# Altium footprint library DTM.PcbLib: 2 footprints
Each footprint in its own frame and in the unit in brackets; x right, y up, seen from the top. Pads: shape width x height; smd on the part's side, far side on the other; paste and mask are expansions set on the pad; w line width, h text height; cw(c..) or ccw(c..) is an arc to the next point about the centre after c.
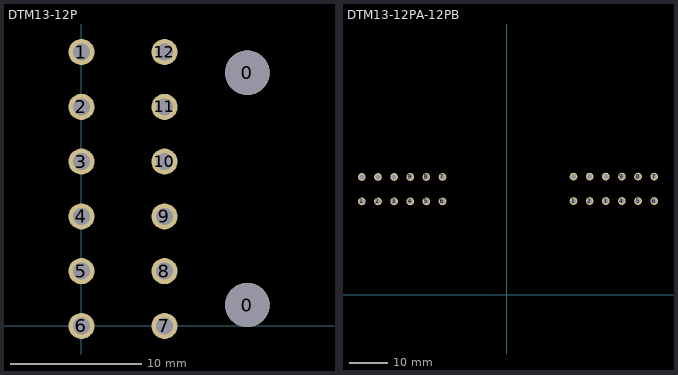
[diagram p0: the footprints below, top view; thin cyan lines are the x and y axes]

## DTM13-12P [mm]
pads (14):
  round 3.4 hole 3.4 unplated: 0(12.7,1.6) 0(12.7,19.37)
  round 2 hole 1.3: 1(0,20.95) 2(0,16.76) 3(0,12.57) 4(0,8.38) 5(0,4.19) 6(0,0) 7(6.35,0) 8(6.35,4.19) 9(6.35,8.38) 10(6.35,12.57) 11(6.35,16.76) 12(6.35,20.95)
3D body "c-dtm13-12pa-99-3d.stp": height 34.51, standoff -3.08, extent -2.5,-20 35.714,40.96

## DTM13-12PA-12PB [mm]
pads (24):
  round 2 hole 1.3: 1(-37.6,24.2) 1(17.4,24.3) 2(-33.41,24.2) 2(21.59,24.3) 3(-29.22,24.2) 3(25.78,24.3) 4(-25.03,24.2) 4(29.97,24.3) 5(-20.84,24.2) 5(34.16,24.3) 6(-16.65,24.2) 6(38.35,24.3) 7(-16.65,30.55) 7(38.35,30.65) 8(-20.84,30.55) 8(34.16,30.65) 9(-25.03,30.55) 9(29.97,30.65) 10(-29.22,30.55) 10(25.78,30.65) 11(-33.41,30.55) 11(21.59,30.65) 12(-37.6,30.55) 12(17.4,30.65)
3D body "c-dtm1312pa12pbr008-c-3d.stp": height 25.11, standoff -9.89, extent -53.753,-4.406 54.553,32.5